# EAGLE library part 610034243021 (library Wurth_Elektronik_Electromechanic_Board_to_Board_Connectors_rev16a)
WR-PHD 2.54mm SMT Dual Socket Header Bottom Entry, 34 Pins=>Code : Con_BTB_SHD_2.54_2_610034243021 <http://katalog.we-online.de/media/images/eican/Con_BTB_SHD_2.54_2_6100xx243021_pf2.jpg> Details see: http://katalog.we-online.de/en/em/610_0xx_243_021 Created 2014-05-30, Karrer Zheng 2014 (C) Würth Elektronik
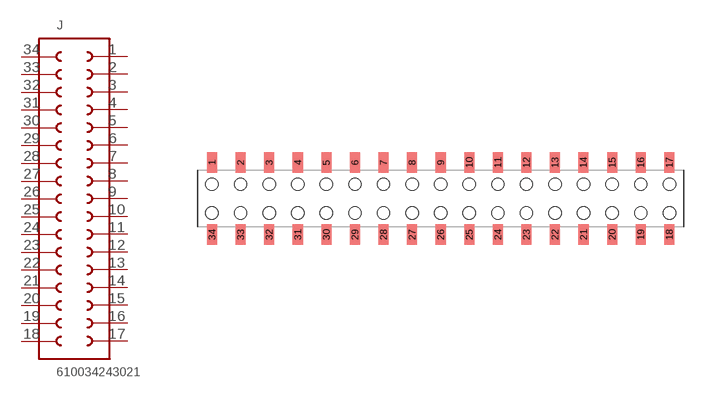
[diagram p316: symbol with the pads of 610034243021; footprint 610034243021]

Designator prefix J

## 610034243021  [610034243021]
1  1  pas
2  2  pas
3  3  pas
4  4  pas
5  5  pas
6  6  pas
7  7  pas
8  8  pas
9  9  pas
10  10  pas
11  11  pas
12  12  pas
13  13  pas
14  14  pas
15  15  pas
16  16  pas
17  17  pas
18  18  pas
19  19  pas
20  20  pas
21  21  pas
22  22  pas
23  23  pas
24  24  pas
25  25  pas
26  26  pas
27  27  pas
28  28  pas
29  29  pas
30  30  pas
31  31  pas
32  32  pas
33  33  pas
34  34  pas

## Footprint 610034243021 (pad centres in mm)
WR-PHD 2.54mm SMT Dual Socket Header Bottom Entry, 34 Pins
smd 0.9 x 1.8: 1 -20.32,3.2; 2 -17.78,3.2; 3 -15.24,3.2; 4 -12.7,3.2; 5 -10.16,3.2; 6 -7.62,3.2; 7 -5.08,3.2; 8 -2.54,3.2; 9 0,3.2; 10 2.54,3.2; 11 5.08,3.2; 12 7.62,3.2; 13 10.16,3.2; 14 12.68,3.2; 15 15.24,3.2; 16 17.78,3.2; 17 20.32,3.2; 18 20.32,-3.2; 19 17.78,-3.2; 20 15.24,-3.2; 21 12.7,-3.2; 22 10.16,-3.2; 23 7.62,-3.2; 24 5.08,-3.2; 25 2.54,-3.2; 26 0,-3.2; 27 -2.54,-3.2; 28 -5.08,-3.2; 29 -7.62,-3.2; 30 -10.16,-3.2; 31 -12.7,-3.2; 32 -15.24,-3.2; 33 -17.78,-3.2; 34 -20.32,-3.2
hole 1.1 at -20.32,1.27
hole 1.1 at -17.78,1.27
hole 1.1 at -17.78,-1.27
hole 1.1 at -20.32,-1.27
hole 1.1 at -15.24,1.27
hole 1.1 at -15.24,-1.27
hole 1.1 at -12.7,1.27
hole 1.1 at -12.7,-1.27
hole 1.1 at -10.16,1.27
hole 1.1 at -10.16,-1.27
hole 1.1 at -7.62,1.27
hole 1.1 at -7.62,-1.27
hole 1.1 at -5.08,1.27
hole 1.1 at -5.08,-1.27
hole 1.1 at -2.54,1.27
hole 1.1 at -2.54,-1.27
hole 1.1 at 0,1.27
hole 1.1 at 0,-1.27
hole 1.1 at 2.54,1.27
hole 1.1 at 2.54,-1.27
hole 1.1 at 5.08,1.27
hole 1.1 at 5.08,-1.27
hole 1.1 at 7.62,1.27
hole 1.1 at 7.62,-1.27
hole 1.1 at 10.16,1.27
hole 1.1 at 10.16,-1.27
hole 1.1 at 12.7,1.27
hole 1.1 at 12.7,-1.27
hole 1.1 at 15.24,1.27
hole 1.1 at 15.24,-1.27
hole 1.1 at 17.78,1.27
hole 1.1 at 17.78,-1.27
hole 1.1 at 20.32,1.27
hole 1.1 at 20.32,-1.27